# Altium schematic symbol library 1932638-3.SchLib: 1 symbol
Pins are listed as number, name and electrical type; pins without a type are passive.

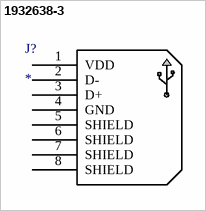
[diagram p0: symbol 1932638-3]

## 1932638-3
designator J?
No Description Available; Mfr_Name: TE Connectivity; RefDes: RefDes; Type: Type
footprint CONN4_1932638-3_TEC
pins: 1 VDD, 2 D-, 3 D+, 4 GND, 5 SHIELD, 6 SHIELD, 7 SHIELD, 8 SHIELD